# Altium footprint library V24 125 Модуль.PcbLib: 1 footprints
Each footprint in its own frame and in the unit in brackets; x right, y up, seen from the top. Pads: shape width x height; smd on the part's side, far side on the other; paste and mask are expansions set on the pad; w line width, h text height; cw(c..) or ccw(c..) is an arc to the next point about the centre after c.
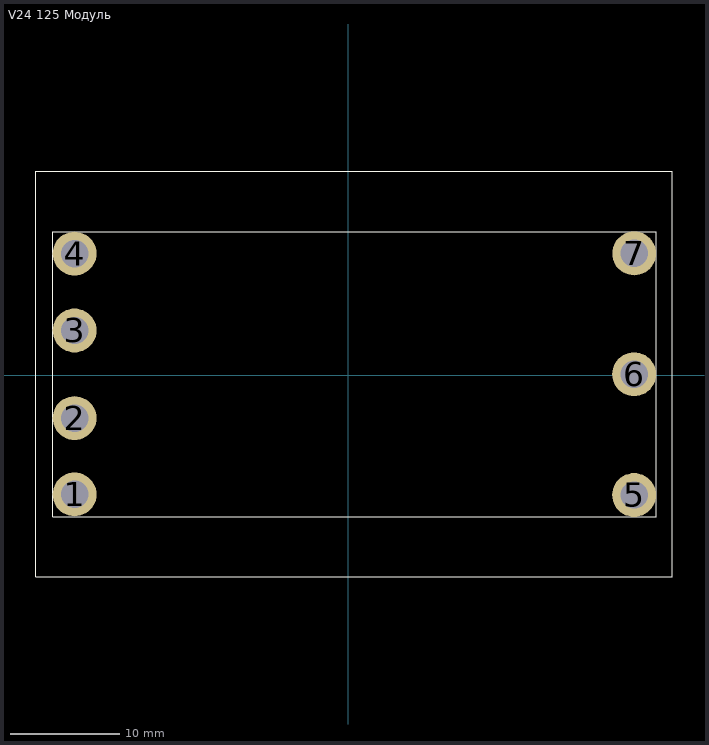
[diagram p0: the footprint, top view; thin cyan lines are the x and y axes]

## V24 125 Модуль [mm]
pads (7):
  round 4 hole 2.5: 1(-24.929,-10.852) 2(-24.929,-3.898) 3(-24.929,4.088) 4(-24.93,11.096) 5(26.07,-10.904) 6(26.074,0.101) 7(26.078,11.113)
Top Overlay:
  lines w0.05: -26.93,-12.904 28.071,-12.904 28.071,13.096 -26.93,13.096 -26.93,-12.904
  lines w0.1: -28.461,-18.376 29.539,-18.376 29.539,18.624 -28.461,18.624 -28.461,-18.376